# Altium footprint library Beveiliging.PcbLib: 1 footprints
Each footprint in its own frame and in the unit in brackets; x right, y up, seen from the top. Pads: shape width x height; smd on the part's side, far side on the other; paste and mask are expansions set on the pad; w line width, h text height; cw(c..) or ccw(c..) is an arc to the next point about the centre after c.
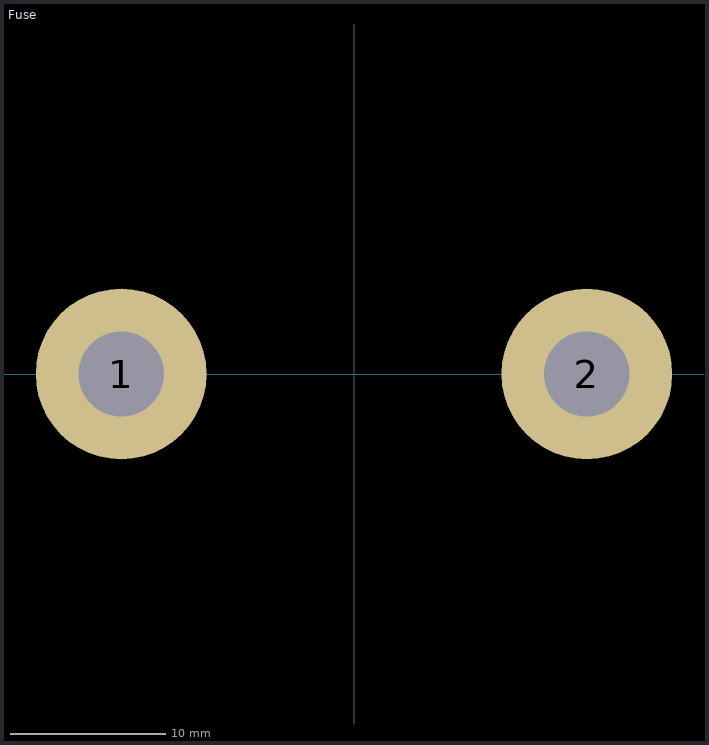
[diagram p0: the footprint, top view; thin cyan lines are the x and y axes]

## Fuse [mm]
pads (2):
  round 11 hole 5.5: 1(-15,0) 2(15,0)
3D body "MIDI.stp": height 3.89, standoff -4.22, extent -20.5,-6 20.5,6